# Altium schematic symbol library RCLAMP3521ZATFT.SchLib: 1 symbol
Pins are listed as number, name and electrical type; pins without a type are passive.

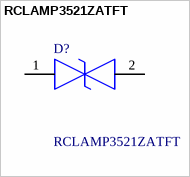
[diagram p0: symbol RCLAMP3521ZATFT]

## RCLAMP3521ZATFT
designator D?
TVS DIODE 3.5VWM 5V SLP0603P2X3F5V (Typ) Clamp 6A Ipp Tvs Diode Surface Mount SLP0603P2X3F; Manufacturer_Name: SEMTECH; Geometry.Height: 0.265mm; Manufacturer_Part_Number: RCLAMP3521ZATFT; Mouser Part Number: 947-RCLAMP3521ZATFT; Mouser Price/Stock: https://www.mouser.co.uk/ProductDetail/Semtech/RCLAMP3521ZATFT?qs=5aG0NVq1C4x6ouY7l2JqqA%3D%3D; Arrow Part Number: RCLAMP3521ZATFT; Arrow Price/Stock: https://www.arrow.com/en/products/rclamp3521zatft/semtech?utm_currency=USD&region=nac; Datasheet Link: https://semtech.my.salesforce.com/sfc/p/E0000000JelG/a/2R000000HTFj/RtolUnnSswHAEeYsM7sjR2dAo9HQRz.z1PGO8KUTcfs
footprint RCLAMP3521ZATFT
pins: 1, 2